# Altium integrated library TI Data Converters Analog to Digital Converter.IntLib: 2198 symbols (part 53 of 164)
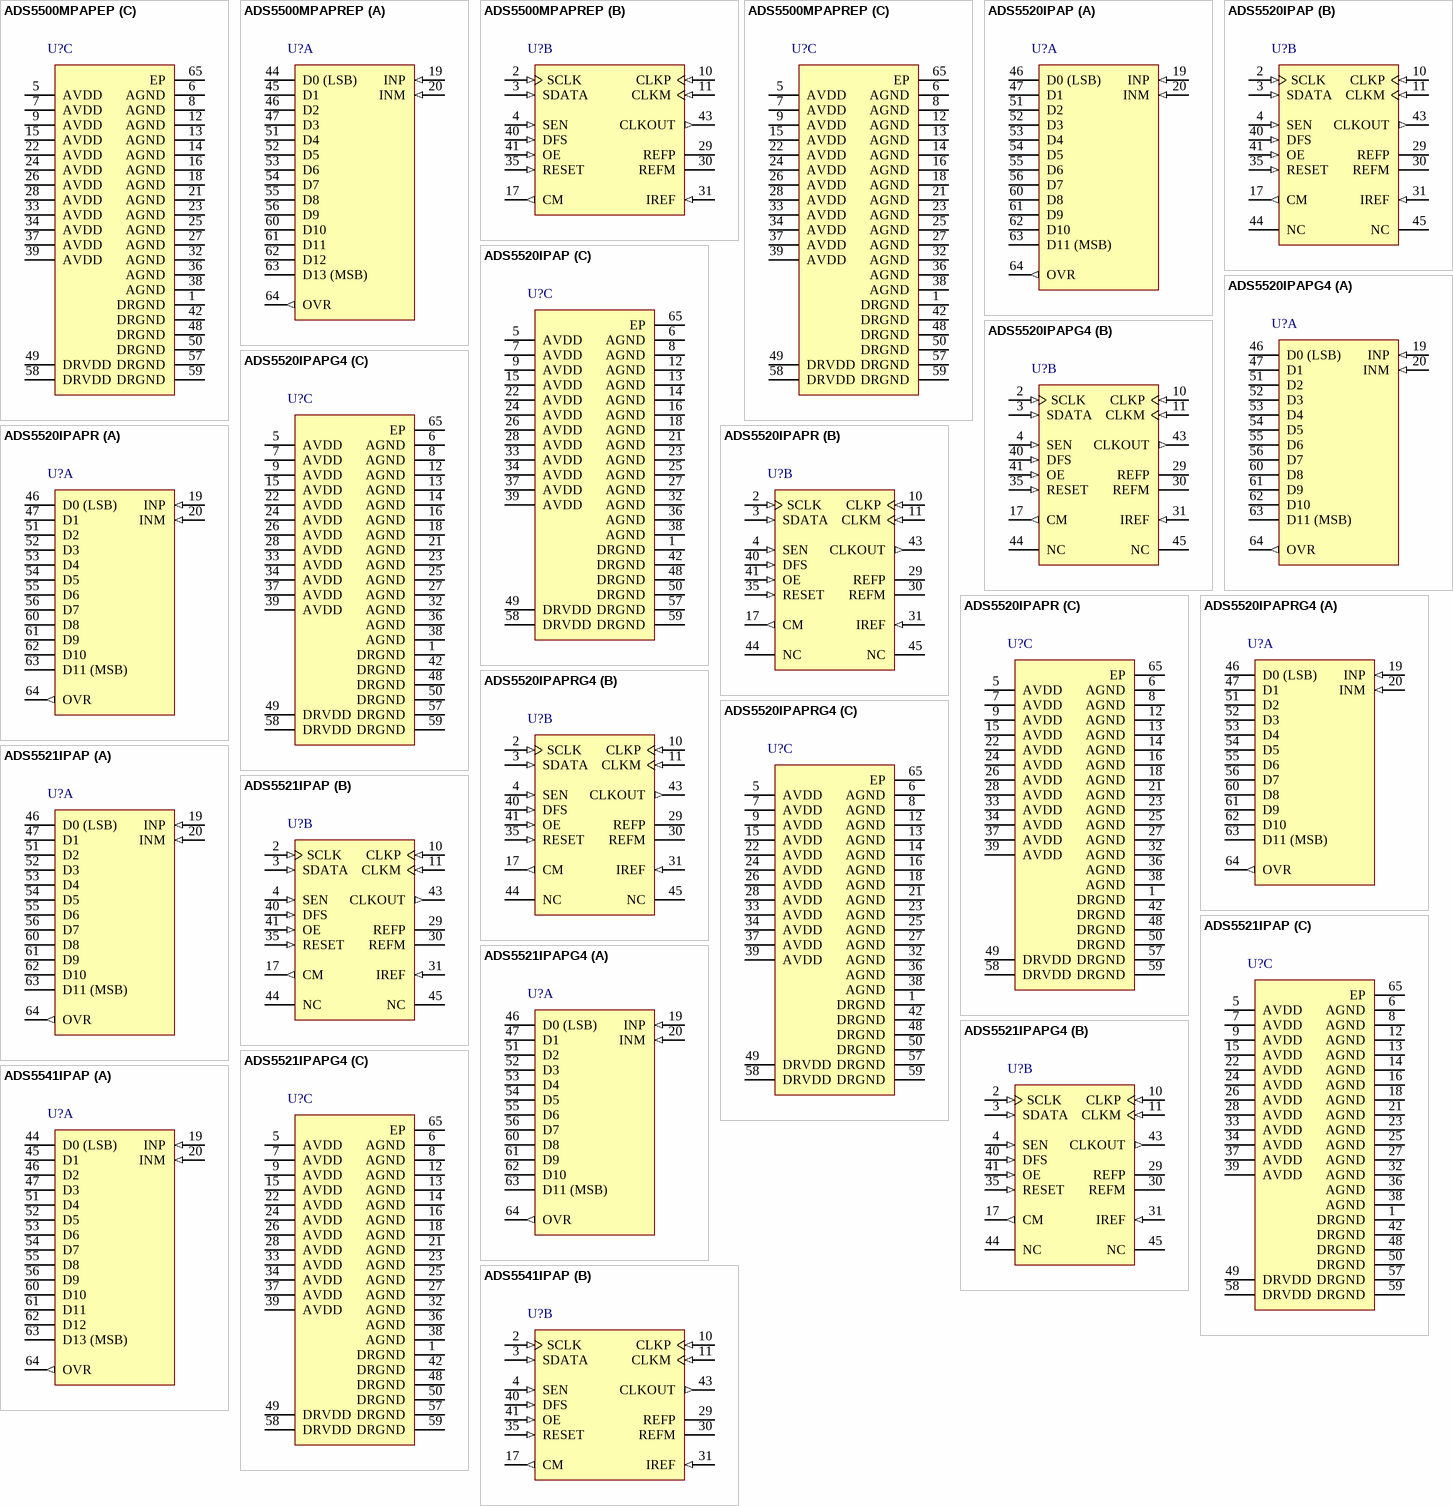
[diagram p178: symbols ADS5500MPAPEP to ADS5541IPAP]

## ADS5520IPAPRG4
designator U?
12-Bit, 125 MSPS ADC, -40 to 85 degC, 64-pin QFP (PAP64), Green (RoHS & no Sb/Br); Manufacturer: Texas Instruments; PartNumber: ADS5520IPAPRG4; # Input Channels: 1; Analog Voltage AV/DD(Max)(V): 3.6; Analog Voltage AV/DD(Min)(V): 3; Architecture: Pipeline; ENOB(Bits): 11.3; INL(Max)(+/-LSB): 1.5; Interface: Parallel CMOS, Serial SPI Interface; Resolution(Bits): 12; Sample Rate (max)(SPS): 125M; SFDR(dB): 83; SINAD(dB): 69.9; SNR(dB): 70.1; SubFamily: High Speed ADC (>10MSPS); DatasheetVersion: SBAS310F; PackageVersion: 4147702/C, 08/2003; PackageReference: PAP64-3825X3825TP; PackageDescription: 64-Pin PowerPAD(TM) Plastic Quad Flatpack, Body 10 x 10 mm, Pitch 0.5 mm; Supplier 1: Digi-Key; Supplier Part Number 1: 296-17631-2-ND; Digital Supply(Max)(V): 3.6; Digital Supply(Min)(V): 3; Eco-Plan: Green (RoHS & no Sb/Br); Mounting Technology: Surface Mount; Code_JEDEC: MS-026; ComponentLink1Description: Manufacturer URL; ComponentLink1URL: http://www.ti.com/; ComponentLink2Description: Datasheet; ComponentLink2URL: http://www.ti.com/general/docs/lit/getliterature.tsp?genericPartNumber=ADS5520&fileType=pdf; ComponentLink3Description: Package Specification; ComponentLink3URL: http://www.ti.com/lit/ml/mpqf071b/mpqf071b.pdf
footprint TI-PAP64-3825X3825TP_N (QFP, 64-Leads, Body 10x10mm, Pitch 0.5mm, Thermal Pad 4.15x4.15 mm, IPC Medium Density)
footprint TI-PAP64-3825X3825TP_L (QFP, 64-Leads, Body 10x10mm, Pitch 0.5mm, Thermal Pad 4.15x4.15mm, IPC High Density)
footprint TI-PAP64-3825X3825TP_M (QFP, 64-Leads, Body 10x10mm, Pitch 0.5mm, Thermal Pad 4.15x4.15mm, IPC Low Density)
part A pins: 19 INP (in) "Differential analog input (positive)", 20 INM (in) "Differential analog input (negative)", 46 D0 (LSB) (hiz) "Parallel data output", 47 D1 (hiz) "Parallel data output", 51 D2 (hiz) "Parallel data output", 52 D3 (hiz) "Parallel data output", 53 D4 (hiz) "Parallel data output", 54 D5 (hiz) "Parallel data output", 55 D6 (hiz) "Parallel data output", 56 D7 (hiz) "Parallel data output", 60 D8 (hiz) "Parallel data output", 61 D9 (hiz) "Parallel data output", 62 D10 (hiz) "Parallel data output", 63 D11 (MSB) (hiz) "Parallel data output", 64 OVR (out) "Over-range indicator bit"
part B pins: 2 SCLK (in) "Serial interface clock", 3 SDATA (in) "Serial interface data", 4 SEN (in) "Serial interface chip select", 10 CLKP (in) "Data converter differential input clock (positive)", 11 CLKM (in) "Data converter differential input clock (negative)", 17 CM (out) "Common-mode output voltage", 29 REFP "Reference voltage (positive); 1-uF capacitor in series with a 1-ohm resistor to GND", 30 REFM "Reference voltage (negative); 1-uF capacitor in series with a 1-ohm resistor to GND", 31 IREF (in) "Current set; 56-kohm resistor to GND; do not connect capacitors", 35 RESET (in) "Reset (active high), 200-kohm resistor to AVDD", 40 DFS (in) "Data format and clock out polarity select", 41 OE (in) "Output enable (active high)", 43 CLKOUT (out) "CMOS clock out in sync with data", 44 NC "Not connected", 45 NC "Not connected"
part C pins: 1 DRGND (power) "Output driver ground", 5 AVDD (power) "Analog power supply", 6 AGND (power) "Analog ground", 7 AVDD (power) "Analog power supply", 8 AGND (power) "Analog ground", 9 AVDD (power) "Analog power supply", 12 AGND (power) "Analog ground", 13 AGND (power) "Analog ground", 14 AGND (power) "Analog ground", 15 AVDD (power) "Analog power supply", 16 AGND (power) "Analog ground", 18 AGND (power) "Analog ground", 21 AGND (power) "Analog ground", 22 AVDD (power) "Analog power supply", 23 AGND (power) "Analog ground", 24 AVDD (power) "Analog power supply", 25 AGND (power) "Analog ground", 26 AVDD (power) "Analog power supply", 27 AGND (power) "Analog ground", 28 AVDD (power) "Analog power supply", 32 AGND (power) "Analog ground", 33 AVDD (power) "Analog power supply", 34 AVDD (power) "Analog power supply", 36 AGND (power) "Analog ground", 37 AVDD (power) "Analog power supply", 38 AGND (power) "Analog ground", 39 AVDD (power) "Analog power supply", 42 DRGND (power) "Output driver ground", 48 DRGND (power) "Output driver ground", 49 DRVDD (power) "Output driver power supply", 50 DRGND (power) "Output driver ground", 57 DRGND (power) "Output driver ground", 58 DRVDD (power) "Output driver power supply", 59 DRGND (power) "Output driver ground", 65 EP (power) "Connected to Analog Ground"

## ADS5521IPAP
designator U?
12-Bit, 105 MSPS ADC, -40 to 85 degC, 64-pin QFP (PAP64), Green (RoHS & no Sb/Br); Manufacturer: Texas Instruments; PartNumber: ADS5521IPAP; # Input Channels: 1; Analog Voltage AV/DD(Max)(V): 3.6; Analog Voltage AV/DD(Min)(V): 3; Architecture: Pipeline; ENOB(Bits): 11.3; INL(Max)(+/-LSB): 1.5; Interface: Parallel CMOS, Serial SPI Interface; Resolution(Bits): 12; Sample Rate (max)(SPS): 105M; SFDR(dB): 86; SINAD(dB): 70; SNR(dB): 70.5; SubFamily: High Speed ADC (>10MSPS); DatasheetVersion: SBAS309D; PackageVersion: 4147702/C, 08/2003; PackageReference: PAP64-3825X3825TP; PackageDescription: 64-Pin PowerPAD(TM) Plastic Quad Flatpack, Body 10 x 10 mm, Pitch 0.5 mm; Supplier 1: Digi-Key; Supplier Part Number 1: ADS1601IPFBTG4-ND; Digital Supply(Max)(V): 3.6; Digital Supply(Min)(V): 3; Eco-Plan: Green (RoHS & no Sb/Br); Mounting Technology: Surface Mount; Code_JEDEC: MS-026; ComponentLink1Description: Manufacturer URL; ComponentLink1URL: http://www.ti.com/; ComponentLink2Description: Datasheet; ComponentLink2URL: http://www.ti.com/general/docs/lit/getliterature.tsp?genericPartNumber=ADS5521&fileType=pdf; ComponentLink3Description: Package Specification; ComponentLink3URL: http://www.ti.com/lit/ml/mpqf071b/mpqf071b.pdf
footprint TI-PAP64-3825X3825TP_N (QFP, 64-Leads, Body 10x10mm, Pitch 0.5mm, Thermal Pad 4.15x4.15 mm, IPC Medium Density)
footprint TI-PAP64-3825X3825TP_L (QFP, 64-Leads, Body 10x10mm, Pitch 0.5mm, Thermal Pad 4.15x4.15mm, IPC High Density)
footprint TI-PAP64-3825X3825TP_M (QFP, 64-Leads, Body 10x10mm, Pitch 0.5mm, Thermal Pad 4.15x4.15mm, IPC Low Density)
part A pins: 19 INP (in) "Differential analog input (positive)", 20 INM (in) "Differential analog input (negative)", 46 D0 (LSB) (hiz) "Parallel data output", 47 D1 (hiz) "Parallel data output", 51 D2 (hiz) "Parallel data output", 52 D3 (hiz) "Parallel data output", 53 D4 (hiz) "Parallel data output", 54 D5 (hiz) "Parallel data output", 55 D6 (hiz) "Parallel data output", 56 D7 (hiz) "Parallel data output", 60 D8 (hiz) "Parallel data output", 61 D9 (hiz) "Parallel data output", 62 D10 (hiz) "Parallel data output", 63 D11 (MSB) (hiz) "Parallel data output", 64 OVR (out) "Over-range indicator bit"
part B pins: 2 SCLK (in) "Serial interface clock", 3 SDATA (in) "Serial interface data", 4 SEN (in) "Serial interface chip select", 10 CLKP (in) "Data converter differential input clock (positive)", 11 CLKM (in) "Data converter differential input clock (negative)", 17 CM (out) "Common-mode output voltage", 29 REFP "Reference voltage (positive); 1-uF capacitor in series with a 1-ohm resistor to GND", 30 REFM "Reference voltage (negative); 1-uF capacitor in series with a 1-ohm resistor to GND", 31 IREF (in) "Current set; 56-kohm resistor to GND; do not connect capacitors", 35 RESET (in) "Reset (active high), 200-kohm resistor to AVDD", 40 DFS (in) "Data format and clock out polarity select", 41 OE (in) "Output enable (active high)", 43 CLKOUT (out) "CMOS clock out in sync with data", 44 NC "Not connected", 45 NC "Not connected"
part C pins: 1 DRGND (power) "Output driver ground", 5 AVDD (power) "Analog power supply", 6 AGND (power) "Analog ground", 7 AVDD (power) "Analog power supply", 8 AGND (power) "Analog ground", 9 AVDD (power) "Analog power supply", 12 AGND (power) "Analog ground", 13 AGND (power) "Analog ground", 14 AGND (power) "Analog ground", 15 AVDD (power) "Analog power supply", 16 AGND (power) "Analog ground", 18 AGND (power) "Analog ground", 21 AGND (power) "Analog ground", 22 AVDD (power) "Analog power supply", 23 AGND (power) "Analog ground", 24 AVDD (power) "Analog power supply", 25 AGND (power) "Analog ground", 26 AVDD (power) "Analog power supply", 27 AGND (power) "Analog ground", 28 AVDD (power) "Analog power supply", 32 AGND (power) "Analog ground", 33 AVDD (power) "Analog power supply", 34 AVDD (power) "Analog power supply", 36 AGND (power) "Analog ground", 37 AVDD (power) "Analog power supply", 38 AGND (power) "Analog ground", 39 AVDD (power) "Analog power supply", 42 DRGND (power) "Output driver ground", 48 DRGND (power) "Output driver ground", 49 DRVDD (power) "Output driver power supply", 50 DRGND (power) "Output driver ground", 57 DRGND (power) "Output driver ground", 58 DRVDD (power) "Output driver power supply", 59 DRGND (power) "Output driver ground", 65 EP (power) "Connected to Analog Ground"

## ADS5521IPAPG4
designator U?
12-Bit, 105 MSPS ADC, -40 to 85 degC, 64-pin QFP (PAP64), Green (RoHS & no Sb/Br); Manufacturer: Texas Instruments; PartNumber: ADS5521IPAPG4; # Input Channels: 1; Analog Voltage AV/DD(Max)(V): 3.6; Analog Voltage AV/DD(Min)(V): 3; Architecture: Pipeline; ENOB(Bits): 11.3; INL(Max)(+/-LSB): 1.5; Interface: Parallel CMOS, Serial SPI Interface; Resolution(Bits): 12; Sample Rate (max)(SPS): 105M; SFDR(dB): 86; SINAD(dB): 70; SNR(dB): 70.5; SubFamily: High Speed ADC (>10MSPS); DatasheetVersion: SBAS309D; PackageVersion: 4147702/C, 08/2003; PackageReference: PAP64-3825X3825TP; PackageDescription: 64-Pin PowerPAD(TM) Plastic Quad Flatpack, Body 10 x 10 mm, Pitch 0.5 mm; Supplier 1: Digi-Key; Supplier Part Number 1: ADS8406IBPFBR-ND; Digital Supply(Max)(V): 3.6; Digital Supply(Min)(V): 3; Eco-Plan: Green (RoHS & no Sb/Br); Mounting Technology: Surface Mount; Code_JEDEC: MS-026; ComponentLink1Description: Manufacturer URL; ComponentLink1URL: http://www.ti.com/; ComponentLink2Description: Datasheet; ComponentLink2URL: http://www.ti.com/general/docs/lit/getliterature.tsp?genericPartNumber=ADS5521&fileType=pdf; ComponentLink3Description: Package Specification; ComponentLink3URL: http://www.ti.com/lit/ml/mpqf071b/mpqf071b.pdf
footprint TI-PAP64-3825X3825TP_N (QFP, 64-Leads, Body 10x10mm, Pitch 0.5mm, Thermal Pad 4.15x4.15 mm, IPC Medium Density)
footprint TI-PAP64-3825X3825TP_L (QFP, 64-Leads, Body 10x10mm, Pitch 0.5mm, Thermal Pad 4.15x4.15mm, IPC High Density)
footprint TI-PAP64-3825X3825TP_M (QFP, 64-Leads, Body 10x10mm, Pitch 0.5mm, Thermal Pad 4.15x4.15mm, IPC Low Density)
part A pins: 19 INP (in) "Differential analog input (positive)", 20 INM (in) "Differential analog input (negative)", 46 D0 (LSB) (hiz) "Parallel data output", 47 D1 (hiz) "Parallel data output", 51 D2 (hiz) "Parallel data output", 52 D3 (hiz) "Parallel data output", 53 D4 (hiz) "Parallel data output", 54 D5 (hiz) "Parallel data output", 55 D6 (hiz) "Parallel data output", 56 D7 (hiz) "Parallel data output", 60 D8 (hiz) "Parallel data output", 61 D9 (hiz) "Parallel data output", 62 D10 (hiz) "Parallel data output", 63 D11 (MSB) (hiz) "Parallel data output", 64 OVR (out) "Over-range indicator bit"
part B pins: 2 SCLK (in) "Serial interface clock", 3 SDATA (in) "Serial interface data", 4 SEN (in) "Serial interface chip select", 10 CLKP (in) "Data converter differential input clock (positive)", 11 CLKM (in) "Data converter differential input clock (negative)", 17 CM (out) "Common-mode output voltage", 29 REFP "Reference voltage (positive); 1-uF capacitor in series with a 1-ohm resistor to GND", 30 REFM "Reference voltage (negative); 1-uF capacitor in series with a 1-ohm resistor to GND", 31 IREF (in) "Current set; 56-kohm resistor to GND; do not connect capacitors", 35 RESET (in) "Reset (active high), 200-kohm resistor to AVDD", 40 DFS (in) "Data format and clock out polarity select", 41 OE (in) "Output enable (active high)", 43 CLKOUT (out) "CMOS clock out in sync with data", 44 NC "Not connected", 45 NC "Not connected"
part C pins: 1 DRGND (power) "Output driver ground", 5 AVDD (power) "Analog power supply", 6 AGND (power) "Analog ground", 7 AVDD (power) "Analog power supply", 8 AGND (power) "Analog ground", 9 AVDD (power) "Analog power supply", 12 AGND (power) "Analog ground", 13 AGND (power) "Analog ground", 14 AGND (power) "Analog ground", 15 AVDD (power) "Analog power supply", 16 AGND (power) "Analog ground", 18 AGND (power) "Analog ground", 21 AGND (power) "Analog ground", 22 AVDD (power) "Analog power supply", 23 AGND (power) "Analog ground", 24 AVDD (power) "Analog power supply", 25 AGND (power) "Analog ground", 26 AVDD (power) "Analog power supply", 27 AGND (power) "Analog ground", 28 AVDD (power) "Analog power supply", 32 AGND (power) "Analog ground", 33 AVDD (power) "Analog power supply", 34 AVDD (power) "Analog power supply", 36 AGND (power) "Analog ground", 37 AVDD (power) "Analog power supply", 38 AGND (power) "Analog ground", 39 AVDD (power) "Analog power supply", 42 DRGND (power) "Output driver ground", 48 DRGND (power) "Output driver ground", 49 DRVDD (power) "Output driver power supply", 50 DRGND (power) "Output driver ground", 57 DRGND (power) "Output driver ground", 58 DRVDD (power) "Output driver power supply", 59 DRGND (power) "Output driver ground", 65 EP (power) "Connected to Analog Ground"

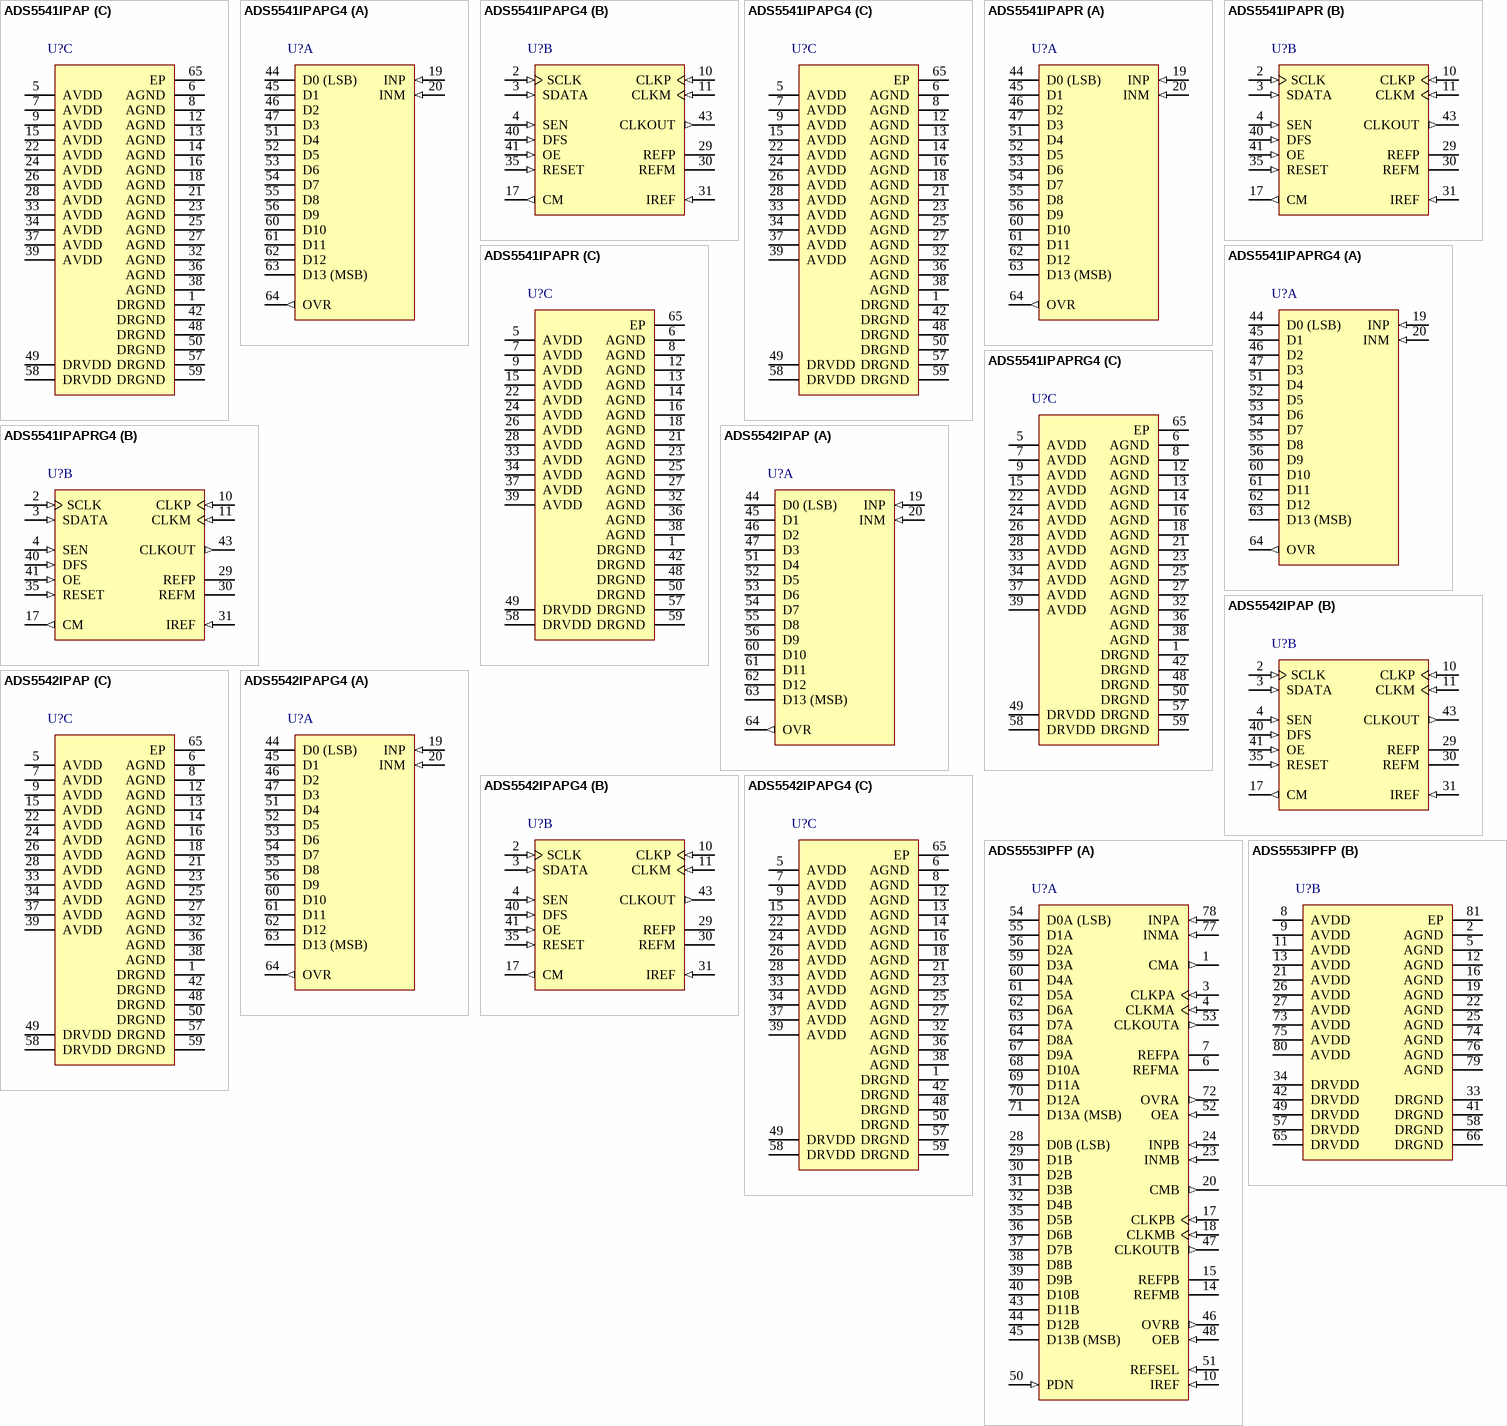
[diagram p53: symbols ADS5541IPAP to ADS5553IPFP]

## ADS5541IPAP
designator U?
14-Bit, 105 MSPS ADC, -40 to 85 degC, 64-pin QFP (PAP64), Green (RoHS & no Sb/Br); Manufacturer: Texas Instruments; PartNumber: ADS5541IPAP; # Input Channels: 1; Analog Voltage AV/DD(Max)(V): 3.6; Analog Voltage AV/DD(Min)(V): 3; Architecture: Pipeline; ENOB(Bits): 11.7; INL(Max)(+/-LSB): 5; Interface: Parallel CMOS, Serial SPI Interface; Resolution(Bits): 14; Sample Rate (max)(SPS): 105M; SFDR(dB): 86; SINAD(dB): 72; SNR(dB): 72.7; SubFamily: High Speed ADC (>10MSPS); DatasheetVersion: SBAS307C; PackageVersion: 4147702/C, 08/2003; PackageReference: PAP64-3825X3825TP; PackageDescription: 64-Pin PowerPAD(TM) Plastic Quad Flatpack, Body 10 x 10 mm, Pitch 0.5 mm; Supplier 1: Digi-Key; Supplier Part Number 1: ADS8406IBPFBRG4-ND; Digital Supply(Max)(V): 3.6; Digital Supply(Min)(V): 3; Eco-Plan: Green (RoHS & no Sb/Br); Mounting Technology: Surface Mount; Code_JEDEC: MS-026; ComponentLink1Description: Manufacturer URL; ComponentLink1URL: http://www.ti.com/; ComponentLink2Description: Datasheet; ComponentLink2URL: http://www.ti.com/general/docs/lit/getliterature.tsp?genericPartNumber=ADS5541&fileType=pdf; ComponentLink3Description: Package Specification; ComponentLink3URL: http://www.ti.com/lit/ml/mpqf071b/mpqf071b.pdf
footprint TI-PAP64-3825X3825TP_N (QFP, 64-Leads, Body 10x10mm, Pitch 0.5mm, Thermal Pad 4.15x4.15 mm, IPC Medium Density)
footprint TI-PAP64-3825X3825TP_L (QFP, 64-Leads, Body 10x10mm, Pitch 0.5mm, Thermal Pad 4.15x4.15mm, IPC High Density)
footprint TI-PAP64-3825X3825TP_M (QFP, 64-Leads, Body 10x10mm, Pitch 0.5mm, Thermal Pad 4.15x4.15mm, IPC Low Density)
part A pins: 19 INP (in) "Differential analog input (positive)", 20 INM (in) "Differential analog input (negative)", 44 D0 (LSB) (hiz) "Parallel data output", 45 D1 (hiz) "Parallel data output", 46 D2 (hiz) "Parallel data output", 47 D3 (hiz) "Parallel data output", 51 D4 (hiz) "Parallel data output", 52 D5 (hiz) "Parallel data output", 53 D6 (hiz) "Parallel data output", 54 D7 (hiz) "Parallel data output", 55 D8 (hiz) "Parallel data output", 56 D9 (hiz) "Parallel data output", 60 D10 (hiz) "Parallel data output", 61 D11 (hiz) "Parallel data output", 62 D12 (hiz) "Parallel data output", 63 D13 (MSB) (hiz) "Parallel data output", 64 OVR (out) "Over-range indicator bit"
part B pins: 2 SCLK (in) "Serial interface clock", 3 SDATA (in) "Serial interface data", 4 SEN (in) "Serial interface chip select", 10 CLKP (in) "Data converter differential input clock (positive)", 11 CLKM (in) "Data converter differential input clock (negative)", 17 CM (out) "Common-mode output voltage", 29 REFP "Reference voltage (positive); 1-uF capacitor in series with a 1-ohm resistor to GND", 30 REFM "Reference voltage (negative); 1-uF capacitor in series with a 1-ohm resistor to GND", 31 IREF (in) "Current set; 56-kohm resistor to GND; do not connect capacitors", 35 RESET (in) "Reset (active high), 200-kohm resistor to AVDD", 40 DFS (in) "Data format and clock out polarity select", 41 OE (in) "Output enable (active high)", 43 CLKOUT (out) "CMOS clock out in sync with data"
part C pins: 1 DRGND (power) "Output driver ground", 5 AVDD (power) "Analog power supply", 6 AGND (power) "Analog ground", 7 AVDD (power) "Analog power supply", 8 AGND (power) "Analog ground", 9 AVDD (power) "Analog power supply", 12 AGND (power) "Analog ground", 13 AGND (power) "Analog ground", 14 AGND (power) "Analog ground", 15 AVDD (power) "Analog power supply", 16 AGND (power) "Analog ground", 18 AGND (power) "Analog ground", 21 AGND (power) "Analog ground", 22 AVDD (power) "Analog power supply", 23 AGND (power) "Analog ground", 24 AVDD (power) "Analog power supply", 25 AGND (power) "Analog ground", 26 AVDD (power) "Analog power supply", 27 AGND (power) "Analog ground", 28 AVDD (power) "Analog power supply", 32 AGND (power) "Analog ground", 33 AVDD (power) "Analog power supply", 34 AVDD (power) "Analog power supply", 36 AGND (power) "Analog ground", 37 AVDD (power) "Analog power supply", 38 AGND (power) "Analog ground", 39 AVDD (power) "Analog power supply", 42 DRGND (power) "Output driver ground", 48 DRGND (power) "Output driver ground", 49 DRVDD (power) "Output driver power supply", 50 DRGND (power) "Output driver ground", 57 DRGND (power) "Output driver ground", 58 DRVDD (power) "Output driver power supply", 59 DRGND (power) "Output driver ground", 65 EP (power) "Connected to Analog Ground"

## ADS5541IPAPG4
designator U?
14-Bit, 105 MSPS ADC, -40 to 85 degC, 64-pin QFP (PAP64), Green (RoHS & no Sb/Br); Manufacturer: Texas Instruments; PartNumber: ADS5541IPAPG4; # Input Channels: 1; Analog Voltage AV/DD(Max)(V): 3.6; Analog Voltage AV/DD(Min)(V): 3; Architecture: Pipeline; ENOB(Bits): 11.7; INL(Max)(+/-LSB): 5; Interface: Parallel CMOS, Serial SPI Interface; Resolution(Bits): 14; Sample Rate (max)(SPS): 105M; SFDR(dB): 86; SINAD(dB): 72; SNR(dB): 72.7; SubFamily: High Speed ADC (>10MSPS); DatasheetVersion: SBAS307C; PackageVersion: 4147702/C, 08/2003; PackageReference: PAP64-3825X3825TP; PackageDescription: 64-Pin PowerPAD(TM) Plastic Quad Flatpack, Body 10 x 10 mm, Pitch 0.5 mm; Supplier 1: Digi-Key; Supplier Part Number 1: 296-17355-2-ND; Digital Supply(Max)(V): 3.6; Digital Supply(Min)(V): 3; Eco-Plan: Green (RoHS & no Sb/Br); Mounting Technology: Surface Mount; Code_JEDEC: MS-026; ComponentLink1Description: Manufacturer URL; ComponentLink1URL: http://www.ti.com/; ComponentLink2Description: Datasheet; ComponentLink2URL: http://www.ti.com/general/docs/lit/getliterature.tsp?genericPartNumber=ADS5541&fileType=pdf; ComponentLink3Description: Package Specification; ComponentLink3URL: http://www.ti.com/lit/ml/mpqf071b/mpqf071b.pdf
footprint TI-PAP64-3825X3825TP_N (QFP, 64-Leads, Body 10x10mm, Pitch 0.5mm, Thermal Pad 4.15x4.15 mm, IPC Medium Density)
footprint TI-PAP64-3825X3825TP_L (QFP, 64-Leads, Body 10x10mm, Pitch 0.5mm, Thermal Pad 4.15x4.15mm, IPC High Density)
footprint TI-PAP64-3825X3825TP_M (QFP, 64-Leads, Body 10x10mm, Pitch 0.5mm, Thermal Pad 4.15x4.15mm, IPC Low Density)
part A pins: 19 INP (in) "Differential analog input (positive)", 20 INM (in) "Differential analog input (negative)", 44 D0 (LSB) (hiz) "Parallel data output", 45 D1 (hiz) "Parallel data output", 46 D2 (hiz) "Parallel data output", 47 D3 (hiz) "Parallel data output", 51 D4 (hiz) "Parallel data output", 52 D5 (hiz) "Parallel data output", 53 D6 (hiz) "Parallel data output", 54 D7 (hiz) "Parallel data output", 55 D8 (hiz) "Parallel data output", 56 D9 (hiz) "Parallel data output", 60 D10 (hiz) "Parallel data output", 61 D11 (hiz) "Parallel data output", 62 D12 (hiz) "Parallel data output", 63 D13 (MSB) (hiz) "Parallel data output", 64 OVR (out) "Over-range indicator bit"
part B pins: 2 SCLK (in) "Serial interface clock", 3 SDATA (in) "Serial interface data", 4 SEN (in) "Serial interface chip select", 10 CLKP (in) "Data converter differential input clock (positive)", 11 CLKM (in) "Data converter differential input clock (negative)", 17 CM (out) "Common-mode output voltage", 29 REFP "Reference voltage (positive); 1-uF capacitor in series with a 1-ohm resistor to GND", 30 REFM "Reference voltage (negative); 1-uF capacitor in series with a 1-ohm resistor to GND", 31 IREF (in) "Current set; 56-kohm resistor to GND; do not connect capacitors", 35 RESET (in) "Reset (active high), 200-kohm resistor to AVDD", 40 DFS (in) "Data format and clock out polarity select", 41 OE (in) "Output enable (active high)", 43 CLKOUT (out) "CMOS clock out in sync with data"
part C pins: 1 DRGND (power) "Output driver ground", 5 AVDD (power) "Analog power supply", 6 AGND (power) "Analog ground", 7 AVDD (power) "Analog power supply", 8 AGND (power) "Analog ground", 9 AVDD (power) "Analog power supply", 12 AGND (power) "Analog ground", 13 AGND (power) "Analog ground", 14 AGND (power) "Analog ground", 15 AVDD (power) "Analog power supply", 16 AGND (power) "Analog ground", 18 AGND (power) "Analog ground", 21 AGND (power) "Analog ground", 22 AVDD (power) "Analog power supply", 23 AGND (power) "Analog ground", 24 AVDD (power) "Analog power supply", 25 AGND (power) "Analog ground", 26 AVDD (power) "Analog power supply", 27 AGND (power) "Analog ground", 28 AVDD (power) "Analog power supply", 32 AGND (power) "Analog ground", 33 AVDD (power) "Analog power supply", 34 AVDD (power) "Analog power supply", 36 AGND (power) "Analog ground", 37 AVDD (power) "Analog power supply", 38 AGND (power) "Analog ground", 39 AVDD (power) "Analog power supply", 42 DRGND (power) "Output driver ground", 48 DRGND (power) "Output driver ground", 49 DRVDD (power) "Output driver power supply", 50 DRGND (power) "Output driver ground", 57 DRGND (power) "Output driver ground", 58 DRVDD (power) "Output driver power supply", 59 DRGND (power) "Output driver ground", 65 EP (power) "Connected to Analog Ground"

## ADS5541IPAPR
designator U?
14-Bit, 105 MSPS ADC, -40 to 85 degC, 64-pin QFP (PAP64), Green (RoHS & no Sb/Br); Manufacturer: Texas Instruments; PartNumber: ADS5541IPAPR; # Input Channels: 1; Analog Voltage AV/DD(Max)(V): 3.6; Analog Voltage AV/DD(Min)(V): 3; Architecture: Pipeline; ENOB(Bits): 11.7; INL(Max)(+/-LSB): 5; Interface: Parallel CMOS, Serial SPI Interface; Resolution(Bits): 14; Sample Rate (max)(SPS): 105M; SFDR(dB): 86; SINAD(dB): 72; SNR(dB): 72.7; SubFamily: High Speed ADC (>10MSPS); DatasheetVersion: SBAS307C; PackageVersion: 4147702/C, 08/2003; PackageReference: PAP64-3825X3825TP; PackageDescription: 64-Pin PowerPAD(TM) Plastic Quad Flatpack, Body 10 x 10 mm, Pitch 0.5 mm; Supplier 1: Digi-Key; Supplier Part Number 1: ADS8406IBPFBTG4-ND; Digital Supply(Max)(V): 3.6; Digital Supply(Min)(V): 3; Eco-Plan: Green (RoHS & no Sb/Br); Mounting Technology: Surface Mount; Code_JEDEC: MS-026; ComponentLink1Description: Manufacturer URL; ComponentLink1URL: http://www.ti.com/; ComponentLink2Description: Datasheet; ComponentLink2URL: http://www.ti.com/general/docs/lit/getliterature.tsp?genericPartNumber=ADS5541&fileType=pdf; ComponentLink3Description: Package Specification; ComponentLink3URL: http://www.ti.com/lit/ml/mpqf071b/mpqf071b.pdf
footprint TI-PAP64-3825X3825TP_N (QFP, 64-Leads, Body 10x10mm, Pitch 0.5mm, Thermal Pad 4.15x4.15 mm, IPC Medium Density)
footprint TI-PAP64-3825X3825TP_L (QFP, 64-Leads, Body 10x10mm, Pitch 0.5mm, Thermal Pad 4.15x4.15mm, IPC High Density)
footprint TI-PAP64-3825X3825TP_M (QFP, 64-Leads, Body 10x10mm, Pitch 0.5mm, Thermal Pad 4.15x4.15mm, IPC Low Density)
part A pins: 19 INP (in) "Differential analog input (positive)", 20 INM (in) "Differential analog input (negative)", 44 D0 (LSB) (hiz) "Parallel data output", 45 D1 (hiz) "Parallel data output", 46 D2 (hiz) "Parallel data output", 47 D3 (hiz) "Parallel data output", 51 D4 (hiz) "Parallel data output", 52 D5 (hiz) "Parallel data output", 53 D6 (hiz) "Parallel data output", 54 D7 (hiz) "Parallel data output", 55 D8 (hiz) "Parallel data output", 56 D9 (hiz) "Parallel data output", 60 D10 (hiz) "Parallel data output", 61 D11 (hiz) "Parallel data output", 62 D12 (hiz) "Parallel data output", 63 D13 (MSB) (hiz) "Parallel data output", 64 OVR (out) "Over-range indicator bit"
part B pins: 2 SCLK (in) "Serial interface clock", 3 SDATA (in) "Serial interface data", 4 SEN (in) "Serial interface chip select", 10 CLKP (in) "Data converter differential input clock (positive)", 11 CLKM (in) "Data converter differential input clock (negative)", 17 CM (out) "Common-mode output voltage", 29 REFP "Reference voltage (positive); 1-uF capacitor in series with a 1-ohm resistor to GND", 30 REFM "Reference voltage (negative); 1-uF capacitor in series with a 1-ohm resistor to GND", 31 IREF (in) "Current set; 56-kohm resistor to GND; do not connect capacitors", 35 RESET (in) "Reset (active high), 200-kohm resistor to AVDD", 40 DFS (in) "Data format and clock out polarity select", 41 OE (in) "Output enable (active high)", 43 CLKOUT (out) "CMOS clock out in sync with data"
part C pins: 1 DRGND (power) "Output driver ground", 5 AVDD (power) "Analog power supply", 6 AGND (power) "Analog ground", 7 AVDD (power) "Analog power supply", 8 AGND (power) "Analog ground", 9 AVDD (power) "Analog power supply", 12 AGND (power) "Analog ground", 13 AGND (power) "Analog ground", 14 AGND (power) "Analog ground", 15 AVDD (power) "Analog power supply", 16 AGND (power) "Analog ground", 18 AGND (power) "Analog ground", 21 AGND (power) "Analog ground", 22 AVDD (power) "Analog power supply", 23 AGND (power) "Analog ground", 24 AVDD (power) "Analog power supply", 25 AGND (power) "Analog ground", 26 AVDD (power) "Analog power supply", 27 AGND (power) "Analog ground", 28 AVDD (power) "Analog power supply", 32 AGND (power) "Analog ground", 33 AVDD (power) "Analog power supply", 34 AVDD (power) "Analog power supply", 36 AGND (power) "Analog ground", 37 AVDD (power) "Analog power supply", 38 AGND (power) "Analog ground", 39 AVDD (power) "Analog power supply", 42 DRGND (power) "Output driver ground", 48 DRGND (power) "Output driver ground", 49 DRVDD (power) "Output driver power supply", 50 DRGND (power) "Output driver ground", 57 DRGND (power) "Output driver ground", 58 DRVDD (power) "Output driver power supply", 59 DRGND (power) "Output driver ground", 65 EP (power) "Connected to Analog Ground"

## ADS5541IPAPRG4
designator U?
14-Bit, 105 MSPS ADC, -40 to 85 degC, 64-pin QFP (PAP64), Green (RoHS & no Sb/Br); Manufacturer: Texas Instruments; PartNumber: ADS5541IPAPRG4; # Input Channels: 1; Analog Voltage AV/DD(Max)(V): 3.6; Analog Voltage AV/DD(Min)(V): 3; Architecture: Pipeline; ENOB(Bits): 11.7; INL(Max)(+/-LSB): 5; Interface: Parallel CMOS, Serial SPI Interface; Resolution(Bits): 14; Sample Rate (max)(SPS): 105M; SFDR(dB): 86; SINAD(dB): 72; SNR(dB): 72.7; SubFamily: High Speed ADC (>10MSPS); DatasheetVersion: SBAS307C; PackageVersion: 4147702/C, 08/2003; PackageReference: PAP64-3825X3825TP; PackageDescription: 64-Pin PowerPAD(TM) Plastic Quad Flatpack, Body 10 x 10 mm, Pitch 0.5 mm; Supplier 1: Digi-Key; Supplier Part Number 1: 296-17356-ND; Digital Supply(Max)(V): 3.6; Digital Supply(Min)(V): 3; Eco-Plan: Green (RoHS & no Sb/Br); Mounting Technology: Surface Mount; Code_JEDEC: MS-026; ComponentLink1Description: Manufacturer URL; ComponentLink1URL: http://www.ti.com/; ComponentLink2Description: Datasheet; ComponentLink2URL: http://www.ti.com/general/docs/lit/getliterature.tsp?genericPartNumber=ADS5541&fileType=pdf; ComponentLink3Description: Package Specification; ComponentLink3URL: http://www.ti.com/lit/ml/mpqf071b/mpqf071b.pdf
footprint TI-PAP64-3825X3825TP_N (QFP, 64-Leads, Body 10x10mm, Pitch 0.5mm, Thermal Pad 4.15x4.15 mm, IPC Medium Density)
footprint TI-PAP64-3825X3825TP_L (QFP, 64-Leads, Body 10x10mm, Pitch 0.5mm, Thermal Pad 4.15x4.15mm, IPC High Density)
footprint TI-PAP64-3825X3825TP_M (QFP, 64-Leads, Body 10x10mm, Pitch 0.5mm, Thermal Pad 4.15x4.15mm, IPC Low Density)
part A pins: 19 INP (in) "Differential analog input (positive)", 20 INM (in) "Differential analog input (negative)", 44 D0 (LSB) (hiz) "Parallel data output", 45 D1 (hiz) "Parallel data output", 46 D2 (hiz) "Parallel data output", 47 D3 (hiz) "Parallel data output", 51 D4 (hiz) "Parallel data output", 52 D5 (hiz) "Parallel data output", 53 D6 (hiz) "Parallel data output", 54 D7 (hiz) "Parallel data output", 55 D8 (hiz) "Parallel data output", 56 D9 (hiz) "Parallel data output", 60 D10 (hiz) "Parallel data output", 61 D11 (hiz) "Parallel data output", 62 D12 (hiz) "Parallel data output", 63 D13 (MSB) (hiz) "Parallel data output", 64 OVR (out) "Over-range indicator bit"
part B pins: 2 SCLK (in) "Serial interface clock", 3 SDATA (in) "Serial interface data", 4 SEN (in) "Serial interface chip select", 10 CLKP (in) "Data converter differential input clock (positive)", 11 CLKM (in) "Data converter differential input clock (negative)", 17 CM (out) "Common-mode output voltage", 29 REFP "Reference voltage (positive); 1-uF capacitor in series with a 1-ohm resistor to GND", 30 REFM "Reference voltage (negative); 1-uF capacitor in series with a 1-ohm resistor to GND", 31 IREF (in) "Current set; 56-kohm resistor to GND; do not connect capacitors", 35 RESET (in) "Reset (active high), 200-kohm resistor to AVDD", 40 DFS (in) "Data format and clock out polarity select", 41 OE (in) "Output enable (active high)", 43 CLKOUT (out) "CMOS clock out in sync with data"
part C pins: 1 DRGND (power) "Output driver ground", 5 AVDD (power) "Analog power supply", 6 AGND (power) "Analog ground", 7 AVDD (power) "Analog power supply", 8 AGND (power) "Analog ground", 9 AVDD (power) "Analog power supply", 12 AGND (power) "Analog ground", 13 AGND (power) "Analog ground", 14 AGND (power) "Analog ground", 15 AVDD (power) "Analog power supply", 16 AGND (power) "Analog ground", 18 AGND (power) "Analog ground", 21 AGND (power) "Analog ground", 22 AVDD (power) "Analog power supply", 23 AGND (power) "Analog ground", 24 AVDD (power) "Analog power supply", 25 AGND (power) "Analog ground", 26 AVDD (power) "Analog power supply", 27 AGND (power) "Analog ground", 28 AVDD (power) "Analog power supply", 32 AGND (power) "Analog ground", 33 AVDD (power) "Analog power supply", 34 AVDD (power) "Analog power supply", 36 AGND (power) "Analog ground", 37 AVDD (power) "Analog power supply", 38 AGND (power) "Analog ground", 39 AVDD (power) "Analog power supply", 42 DRGND (power) "Output driver ground", 48 DRGND (power) "Output driver ground", 49 DRVDD (power) "Output driver power supply", 50 DRGND (power) "Output driver ground", 57 DRGND (power) "Output driver ground", 58 DRVDD (power) "Output driver power supply", 59 DRGND (power) "Output driver ground", 65 EP (power) "Connected to Analog Ground"

## ADS5542IPAP
designator U?
14-Bit, 80 MSPS ADC, -40 to 85 degC, 64-pin QFP (PAP64), Green (RoHS & no Sb/Br); Manufacturer: Texas Instruments; PartNumber: ADS5542IPAP; # Input Channels: 1; Analog Voltage AV/DD(Max)(V): 3.6; Analog Voltage AV/DD(Min)(V): 3; Architecture: Pipeline; ENOB(Bits): 11.9; INL(Max)(+/-LSB): 5; Interface: Parallel CMOS, Serial SPI Interface; Resolution(Bits): 14; Sample Rate (max)(SPS): 80M; SFDR(dB): 87; SINAD(dB): 73.2; SNR(dB): 73.5; SubFamily: High Speed ADC (>10MSPS); DatasheetVersion: SBAS308D; PackageVersion: 4147702/C, 08/2003; PackageReference: PAP64-3825X3825TP; PackageDescription: 64-Pin PowerPAD(TM) Plastic Quad Flatpack, Body 10 x 10 mm, Pitch 0.5 mm; Supplier 1: Digi-Key; Supplier Part Number 1: ADS8406IPFBTG4-ND; Digital Supply(Max)(V): 3.6; Digital Supply(Min)(V): 3; Eco-Plan: Green (RoHS & no Sb/Br); Mounting Technology: Surface Mount; Code_JEDEC: MS-026; ComponentLink1Description: Manufacturer URL; ComponentLink1URL: http://www.ti.com/; ComponentLink2Description: Datasheet; ComponentLink2URL: http://www.ti.com/general/docs/lit/getliterature.tsp?genericPartNumber=ADS5542&fileType=pdf; ComponentLink3Description: Package Specification; ComponentLink3URL: http://www.ti.com/lit/ml/mpqf071b/mpqf071b.pdf
footprint TI-PAP64-3825X3825TP_N (QFP, 64-Leads, Body 10x10mm, Pitch 0.5mm, Thermal Pad 4.15x4.15 mm, IPC Medium Density)
footprint TI-PAP64-3825X3825TP_L (QFP, 64-Leads, Body 10x10mm, Pitch 0.5mm, Thermal Pad 4.15x4.15mm, IPC High Density)
footprint TI-PAP64-3825X3825TP_M (QFP, 64-Leads, Body 10x10mm, Pitch 0.5mm, Thermal Pad 4.15x4.15mm, IPC Low Density)
part A pins: 19 INP (in) "Differential analog input (positive)", 20 INM (in) "Differential analog input (negative)", 44 D0 (LSB) (hiz) "Parallel data output", 45 D1 (hiz) "Parallel data output", 46 D2 (hiz) "Parallel data output", 47 D3 (hiz) "Parallel data output", 51 D4 (hiz) "Parallel data output", 52 D5 (hiz) "Parallel data output", 53 D6 (hiz) "Parallel data output", 54 D7 (hiz) "Parallel data output", 55 D8 (hiz) "Parallel data output", 56 D9 (hiz) "Parallel data output", 60 D10 (hiz) "Parallel data output", 61 D11 (hiz) "Parallel data output", 62 D12 (hiz) "Parallel data output", 63 D13 (MSB) (hiz) "Parallel data output", 64 OVR (out) "Over-range indicator bit"
part B pins: 2 SCLK (in) "Serial interface clock", 3 SDATA (in) "Serial interface data", 4 SEN (in) "Serial interface chip select", 10 CLKP (in) "Data converter differential input clock (positive)", 11 CLKM (in) "Data converter differential input clock (negative)", 17 CM (out) "Common-mode output voltage", 29 REFP "Reference voltage (positive); 1-uF capacitor in series with a 1-ohm resistor to GND", 30 REFM "Reference voltage (negative); 1-uF capacitor in series with a 1-ohm resistor to GND", 31 IREF (in) "Current set; 56-kohm resistor to GND; do not connect capacitors", 35 RESET (in) "Reset (active high), 200-kohm resistor to AVDD", 40 DFS (in) "Data format and clock out polarity select", 41 OE (in) "Output enable (active high)", 43 CLKOUT (out) "CMOS clock out in sync with data"
part C pins: 1 DRGND (power) "Output driver ground", 5 AVDD (power) "Analog power supply", 6 AGND (power) "Analog ground", 7 AVDD (power) "Analog power supply", 8 AGND (power) "Analog ground", 9 AVDD (power) "Analog power supply", 12 AGND (power) "Analog ground", 13 AGND (power) "Analog ground", 14 AGND (power) "Analog ground", 15 AVDD (power) "Analog power supply", 16 AGND (power) "Analog ground", 18 AGND (power) "Analog ground", 21 AGND (power) "Analog ground", 22 AVDD (power) "Analog power supply", 23 AGND (power) "Analog ground", 24 AVDD (power) "Analog power supply", 25 AGND (power) "Analog ground", 26 AVDD (power) "Analog power supply", 27 AGND (power) "Analog ground", 28 AVDD (power) "Analog power supply", 32 AGND (power) "Analog ground", 33 AVDD (power) "Analog power supply", 34 AVDD (power) "Analog power supply", 36 AGND (power) "Analog ground", 37 AVDD (power) "Analog power supply", 38 AGND (power) "Analog ground", 39 AVDD (power) "Analog power supply", 42 DRGND (power) "Output driver ground", 48 DRGND (power) "Output driver ground", 49 DRVDD (power) "Output driver power supply", 50 DRGND (power) "Output driver ground", 57 DRGND (power) "Output driver ground", 58 DRVDD (power) "Output driver power supply", 59 DRGND (power) "Output driver ground", 65 EP (power) "Connected to Analog Ground"

## ADS5542IPAPG4
designator U?
14-Bit, 80 MSPS ADC, -40 to 85 degC, 64-pin QFP (PAP64), Green (RoHS & no Sb/Br); Manufacturer: Texas Instruments; PartNumber: ADS5542IPAPG4; # Input Channels: 1; Analog Voltage AV/DD(Max)(V): 3.6; Analog Voltage AV/DD(Min)(V): 3; Architecture: Pipeline; ENOB(Bits): 11.9; INL(Max)(+/-LSB): 5; Interface: Parallel CMOS, Serial SPI Interface; Resolution(Bits): 14; Sample Rate (max)(SPS): 80M; SFDR(dB): 87; SINAD(dB): 73.2; SNR(dB): 73.5; SubFamily: High Speed ADC (>10MSPS); DatasheetVersion: SBAS308D; PackageVersion: 4147702/C, 08/2003; PackageReference: PAP64-3825X3825TP; PackageDescription: 64-Pin PowerPAD(TM) Plastic Quad Flatpack, Body 10 x 10 mm, Pitch 0.5 mm; Supplier 1: Digi-Key; Supplier Part Number 1: ADS7891IPFBR-ND; Digital Supply(Max)(V): 3.6; Digital Supply(Min)(V): 3; Eco-Plan: Green (RoHS & no Sb/Br); Mounting Technology: Surface Mount; Code_JEDEC: MS-026; ComponentLink1Description: Manufacturer URL; ComponentLink1URL: http://www.ti.com/; ComponentLink2Description: Datasheet; ComponentLink2URL: http://www.ti.com/general/docs/lit/getliterature.tsp?genericPartNumber=ADS5542&fileType=pdf; ComponentLink3Description: Package Specification; ComponentLink3URL: http://www.ti.com/lit/ml/mpqf071b/mpqf071b.pdf
footprint TI-PAP64-3825X3825TP_N (QFP, 64-Leads, Body 10x10mm, Pitch 0.5mm, Thermal Pad 4.15x4.15 mm, IPC Medium Density)
footprint TI-PAP64-3825X3825TP_L (QFP, 64-Leads, Body 10x10mm, Pitch 0.5mm, Thermal Pad 4.15x4.15mm, IPC High Density)
footprint TI-PAP64-3825X3825TP_M (QFP, 64-Leads, Body 10x10mm, Pitch 0.5mm, Thermal Pad 4.15x4.15mm, IPC Low Density)
part A pins: 19 INP (in) "Differential analog input (positive)", 20 INM (in) "Differential analog input (negative)", 44 D0 (LSB) (hiz) "Parallel data output", 45 D1 (hiz) "Parallel data output", 46 D2 (hiz) "Parallel data output", 47 D3 (hiz) "Parallel data output", 51 D4 (hiz) "Parallel data output", 52 D5 (hiz) "Parallel data output", 53 D6 (hiz) "Parallel data output", 54 D7 (hiz) "Parallel data output", 55 D8 (hiz) "Parallel data output", 56 D9 (hiz) "Parallel data output", 60 D10 (hiz) "Parallel data output", 61 D11 (hiz) "Parallel data output", 62 D12 (hiz) "Parallel data output", 63 D13 (MSB) (hiz) "Parallel data output", 64 OVR (out) "Over-range indicator bit"
part B pins: 2 SCLK (in) "Serial interface clock", 3 SDATA (in) "Serial interface data", 4 SEN (in) "Serial interface chip select", 10 CLKP (in) "Data converter differential input clock (positive)", 11 CLKM (in) "Data converter differential input clock (negative)", 17 CM (out) "Common-mode output voltage", 29 REFP "Reference voltage (positive); 1-uF capacitor in series with a 1-ohm resistor to GND", 30 REFM "Reference voltage (negative); 1-uF capacitor in series with a 1-ohm resistor to GND", 31 IREF (in) "Current set; 56-kohm resistor to GND; do not connect capacitors", 35 RESET (in) "Reset (active high), 200-kohm resistor to AVDD", 40 DFS (in) "Data format and clock out polarity select", 41 OE (in) "Output enable (active high)", 43 CLKOUT (out) "CMOS clock out in sync with data"
part C pins: 1 DRGND (power) "Output driver ground", 5 AVDD (power) "Analog power supply", 6 AGND (power) "Analog ground", 7 AVDD (power) "Analog power supply", 8 AGND (power) "Analog ground", 9 AVDD (power) "Analog power supply", 12 AGND (power) "Analog ground", 13 AGND (power) "Analog ground", 14 AGND (power) "Analog ground", 15 AVDD (power) "Analog power supply", 16 AGND (power) "Analog ground", 18 AGND (power) "Analog ground", 21 AGND (power) "Analog ground", 22 AVDD (power) "Analog power supply", 23 AGND (power) "Analog ground", 24 AVDD (power) "Analog power supply", 25 AGND (power) "Analog ground", 26 AVDD (power) "Analog power supply", 27 AGND (power) "Analog ground", 28 AVDD (power) "Analog power supply", 32 AGND (power) "Analog ground", 33 AVDD (power) "Analog power supply", 34 AVDD (power) "Analog power supply", 36 AGND (power) "Analog ground", 37 AVDD (power) "Analog power supply", 38 AGND (power) "Analog ground", 39 AVDD (power) "Analog power supply", 42 DRGND (power) "Output driver ground", 48 DRGND (power) "Output driver ground", 49 DRVDD (power) "Output driver power supply", 50 DRGND (power) "Output driver ground", 57 DRGND (power) "Output driver ground", 58 DRVDD (power) "Output driver power supply", 59 DRGND (power) "Output driver ground", 65 EP (power) "Connected to Analog Ground"

## ADS5553IPFP
designator U?
Dual-Channel 14-Bit, 65 MSPS ADC, -40 to 85 degC, 80-pin QFP (PFP80), Green (RoHS & no Sb/Br); Manufacturer: Texas Instruments; PartNumber: ADS5553IPFP; # Input Channels: 2; Analog Voltage AV/DD(Max)(V): 3.6; Analog Voltage AV/DD(Min)(V): 3; Architecture: Pipeline; ENOB(Bits): 11.9; INL(Max)(+/-LSB): 4; Interface: Parallel CMOS, Serial SPI Interface; Resolution(Bits): 14; Sample Rate (max)(SPS): 65M; SFDR(dB): 84; SINAD(dB): 73.4; SNR(dB): 74; SubFamily: High Speed ADC (>10MSPS); DatasheetVersion: SLWS158; PackageVersion: 4146925/C, 07/2011; PackageReference: PFP80-6825X6825TP; PackageDescription: 80-Pin PowerPAD(TM) Plastic Quad Flatpack, Body 12 x 12 mm, Pitch 0.5 mm; Supplier 1: Digi-Key; Supplier Part Number 1: ADS7891IPFBRG4-ND; Digital Supply(Max)(V): 3.6; Digital Supply(Min)(V): 3; Eco-Plan: Green (RoHS & no Sb/Br); Mounting Technology: Surface Mount; Code_JEDEC: MS-026; ComponentLink1Description: Manufacturer URL; ComponentLink1URL: http://www.ti.com/; ComponentLink2Description: Datasheet; ComponentLink2URL: http://www.ti.com/general/docs/lit/getliterature.tsp?genericPartNumber=ADS5553&fileType=pdf; ComponentLink3Description: Package Specification; ComponentLink3URL: http://www.ti.com/litv/pdf/mpqf049b
footprint TI-PFP80-6825X6825TP_N (QFP, 80-Leads, Body 12x12mm, Pitch 0.5mm, Thermal Pad 7.5x7.5mm, IPC Medium Density)
footprint TI-PFP80-6825X6825TP_L (QFP, 80-Leads, Body 12x12mm, Pitch 0.5mm, Thermal Pad 7.5x7.5mm, IPC High Density)
footprint TI-PFP80-6825X6825TP_M (QFP, 80-Leads, Body 12x12mm, Pitch 0.5mm, Thermal Pad 7.5x7.5mm, IPC Low Density)
part A pins: 1 CMA (out) "Channel A common-mode output voltage", 3 CLKPA (in) "Channel A differential input clock (positive)", 4 CLKMA (in) "Channel A differential input clock (negative)", 6 REFMA "Channel A reference voltage (negative); 0.1 uF to GND", 7 REFPA "Channel A reference voltage (positive); 0.1 uF to GND", 10 IREF (in) "Current set, 56-kohm resistor to GND", 14 REFMB "Channel B reference voltage (negative); 0.1 uF to GND", 15 REFPB "Channel B reference voltage (positive); 0.1 uF to GND", 17 CLKPB (in) "Channel B differential input clock (positive)", 18 CLKMB (in) "Channel B differential input clock (negative)", 20 CMB (out) "Channel B common-mode output voltage", 23 INMB (in) "Channel B differential analog input (negative)", 24 INPB (in) "Channel B differential analog input (positive)", 28 D0B (LSB) (hiz) "Channel B parallel data", 29 D1B (hiz) "Channel B parallel data", 30 D2B (hiz) "Channel B parallel data", 31 D3B (hiz) "Channel B parallel data", 32 D4B (hiz) "Channel B parallel data", 35 D5B (hiz) "Channel B parallel data", 36 D6B (hiz) "Channel B parallel data", 37 D7B (hiz) "Channel B parallel data", 38 D8B (hiz) "Channel B parallel data", 39 D9B (hiz) "Channel B parallel data", 40 D10B (hiz) "Channel B parallel data", 43 D11B (hiz) "Channel B parallel data", 44 D12B (hiz) "Channel B parallel data", 45 D13B (MSB) (hiz) "Channel B parallel data", 46 OVRB (out) "Channel B over-range indicator bit", 47 CLKOUTB (out) "Channel B clock out in sync with data", 48 OEB (in) "Channel B output enable (active high)", 50 PDN (in) "Power down active high. See Table 2", 51 REFSEL (in) "Reference select. 1-EXT. REF; 0-INT. REF", 52 OEA (in) "Channel A output enable (active high)", 53 CLKOUTA (out) "Channel A clock out in sync with data", 54 D0A (LSB) (hiz) "Channel A parallel data", 55 D1A (hiz) "Channel A parallel data", 56 D2A (hiz) "Channel A parallel data", 59 D3A (hiz) "Channel A parallel data", 60 D4A (hiz) "Channel A parallel data", 61 D5A (hiz) "Channel A parallel data", 62 D6A (hiz) "Channel A parallel data", 63 D7A (hiz) "Channel A parallel data", 64 D8A (hiz) "Channel A parallel data", 67 D9A (hiz) "Channel A parallel data", 68 D10A (hiz) "Channel A parallel data", 69 D11A (hiz) "Channel A parallel data", 70 D12A (hiz) "Channel A parallel data", 71 D13A (MSB) (hiz) "Channel A parallel data", 72 OVRA (out) "Channel A over-range indicator bit", 77 INMA (in) "Channel A differential analog input (negative)", 78 INPA (in) "Channel A differential analog input (positive)"
part B pins: 2 AGND (power) "Analog ground", 5 AGND (power) "Analog ground", 8 AVDD (power) "Analog power supply", 9 AVDD (power) "Analog power supply", 11 AVDD (power) "Analog power supply", 12 AGND (power) "Analog ground", 13 AVDD (power) "Analog power supply", 16 AGND (power) "Analog ground", 19 AGND (power) "Analog ground", 21 AVDD (power) "Analog power supply", 22 AGND (power) "Analog ground", 25 AGND (power) "Analog ground", 26 AVDD (power) "Analog power supply", 27 AVDD (power) "Analog power supply", 33 DRGND (power) "Output driver ground", 34 DRVDD (power) "Output driver power supply", 41 DRGND (power) "Output driver ground", 42 DRVDD (power) "Output driver power supply", 49 DRVDD (power) "Output driver power supply", 57 DRVDD (power) "Output driver power supply", 58 DRGND (power) "Output driver ground", 65 DRVDD (power) "Output driver power supply", 66 DRGND (power) "Output driver ground", 73 AVDD (power) "Analog power supply", 74 AGND (power) "Analog ground", 75 AVDD (power) "Analog power supply", 76 AGND (power) "Analog ground", 79 AGND (power) "Analog ground", 80 AVDD (power) "Analog power supply", 81 EP

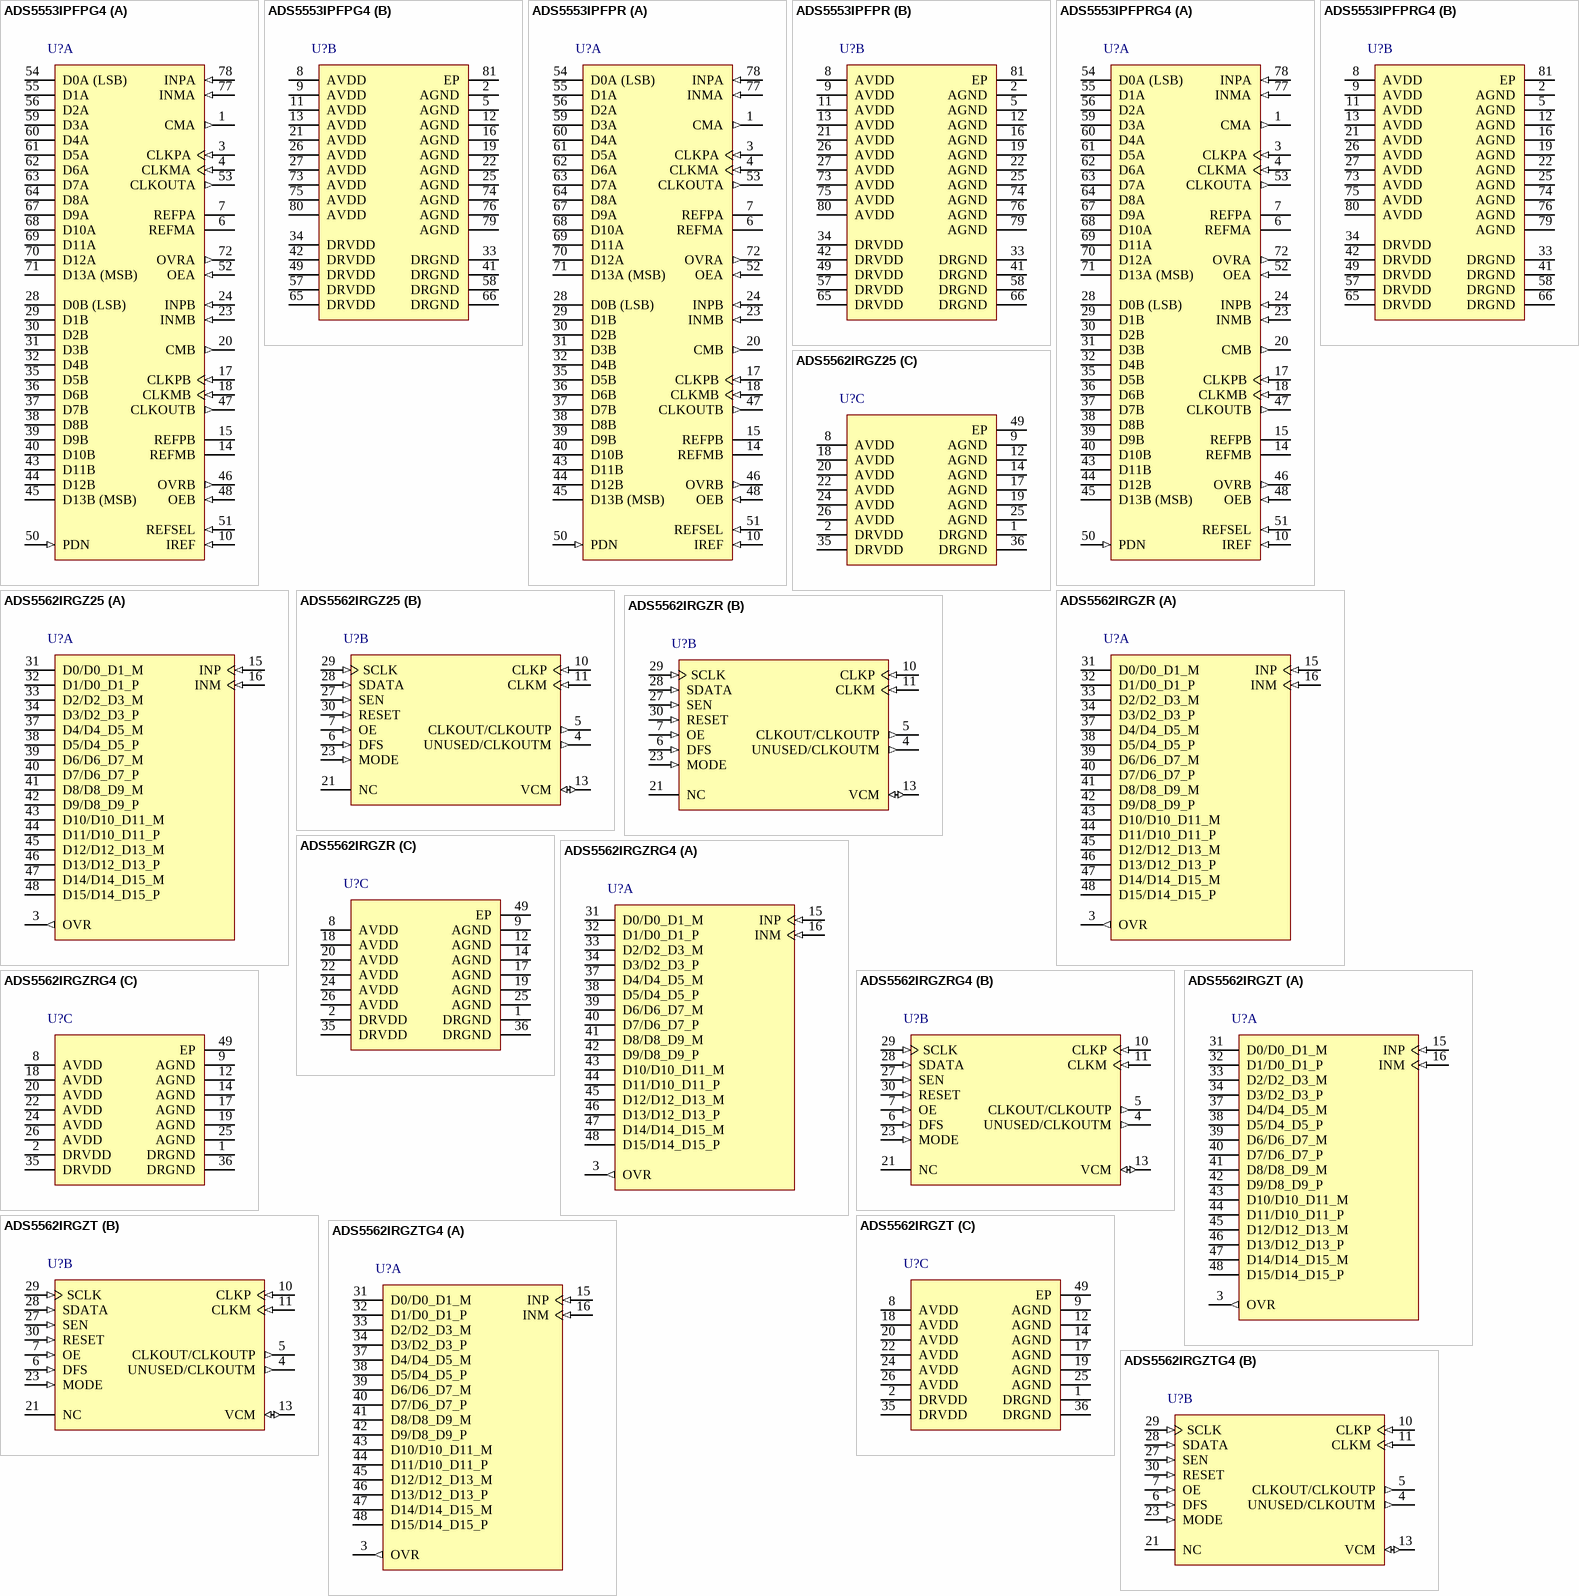
[diagram p54: symbols ADS5553IPFPG4 to ADS5562IRGZTG4]